# EAGLE library part AT32ADAPTER (library Eagle-Lib)
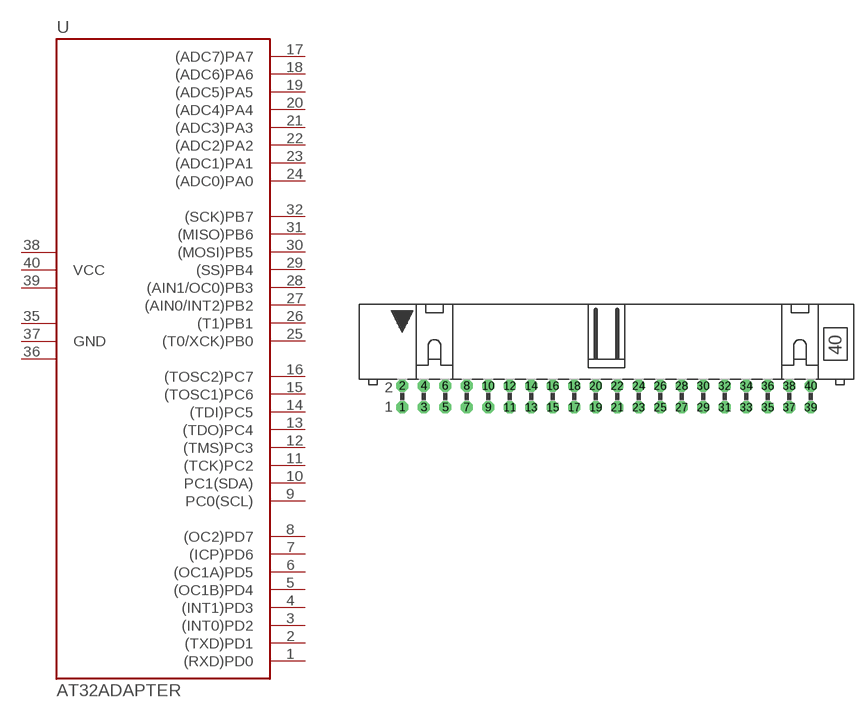
[diagram p2: symbol with the pads of ML40L; footprint ML40L]

Designator prefix -

## AT32ADAPTER  [ML40L]
1  (RXD)PD0
2  (TXD)PD1
3  (INT0)PD2
4  (INT1)PD3
5  (OC1B)PD4
6  (OC1A)PD5
7  (ICP)PD6
8  (OC2)PD7
9  PC0(SCL)
10  PC1(SDA)
11  (TCK)PC2
12  (TMS)PC3
13  (TDO)PC4
14  (TDI)PC5
15  (TOSC1)PC6
16  (TOSC2)PC7
17  (ADC7)PA7
18  (ADC6)PA6
19  (ADC5)PA5
20  (ADC4)PA4
21  (ADC3)PA3
22  (ADC2)PA2
23  (ADC1)PA1
24  (ADC0)PA0
25  (T0/XCK)PB0
26  (T1)PB1
27  (AIN0/INT2)PB2
28  (AIN1/OC0)PB3
29  (SS)PB4
30  (MOSI)PB5
31  (MISO)PB6
32  (SCK)PB7
35  GND1  pwr
36  GND2  pwr
37  GND  pwr
38  VCC1  pwr
39  VCC2  pwr
40  VCC  pwr

## Footprint ML40L (pad centres in mm)
drill 0.914 octagon: 1 -24.13,-6.35; 2 -24.13,-3.81; 3 -21.59,-6.35; 4 -21.59,-3.81; 5 -19.05,-6.35; 6 -19.05,-3.81; 7 -16.51,-6.35; 8 -16.51,-3.81; 9 -13.97,-6.35; 10 -13.97,-3.81; 11 -11.43,-6.35; 12 -11.43,-3.81; 13 -8.89,-6.35; 14 -8.89,-3.81; 15 -6.35,-6.35; 16 -6.35,-3.81; 17 -3.81,-6.35; 18 -3.81,-3.81; 19 -1.27,-6.35; 20 -1.27,-3.81; 21 1.27,-6.35; 22 1.27,-3.81; 23 3.81,-6.35; 24 3.81,-3.81; 25 6.35,-6.35; 26 6.35,-3.81; 27 8.89,-6.35; 28 8.89,-3.81; 29 11.43,-6.35; 30 11.43,-3.81; 31 13.97,-6.35; 32 13.97,-3.81; 33 16.51,-6.35; 34 16.51,-3.81; 35 19.05,-6.35; 36 19.05,-3.81; 37 21.59,-6.35; 38 21.59,-3.81; 39 24.13,-6.35; 40 24.13,-3.81